# Altium footprint library PcbLib1.PcbLib: 14 footprints (part 3 of 3)
Each footprint in its own frame and in the unit in brackets; x right, y up, seen from the top. Pads: shape width x height; smd on the part's side, far side on the other; paste and mask are expansions set on the pad; w line width, h text height; cw(c..) or ccw(c..) is an arc to the next point about the centre after c.
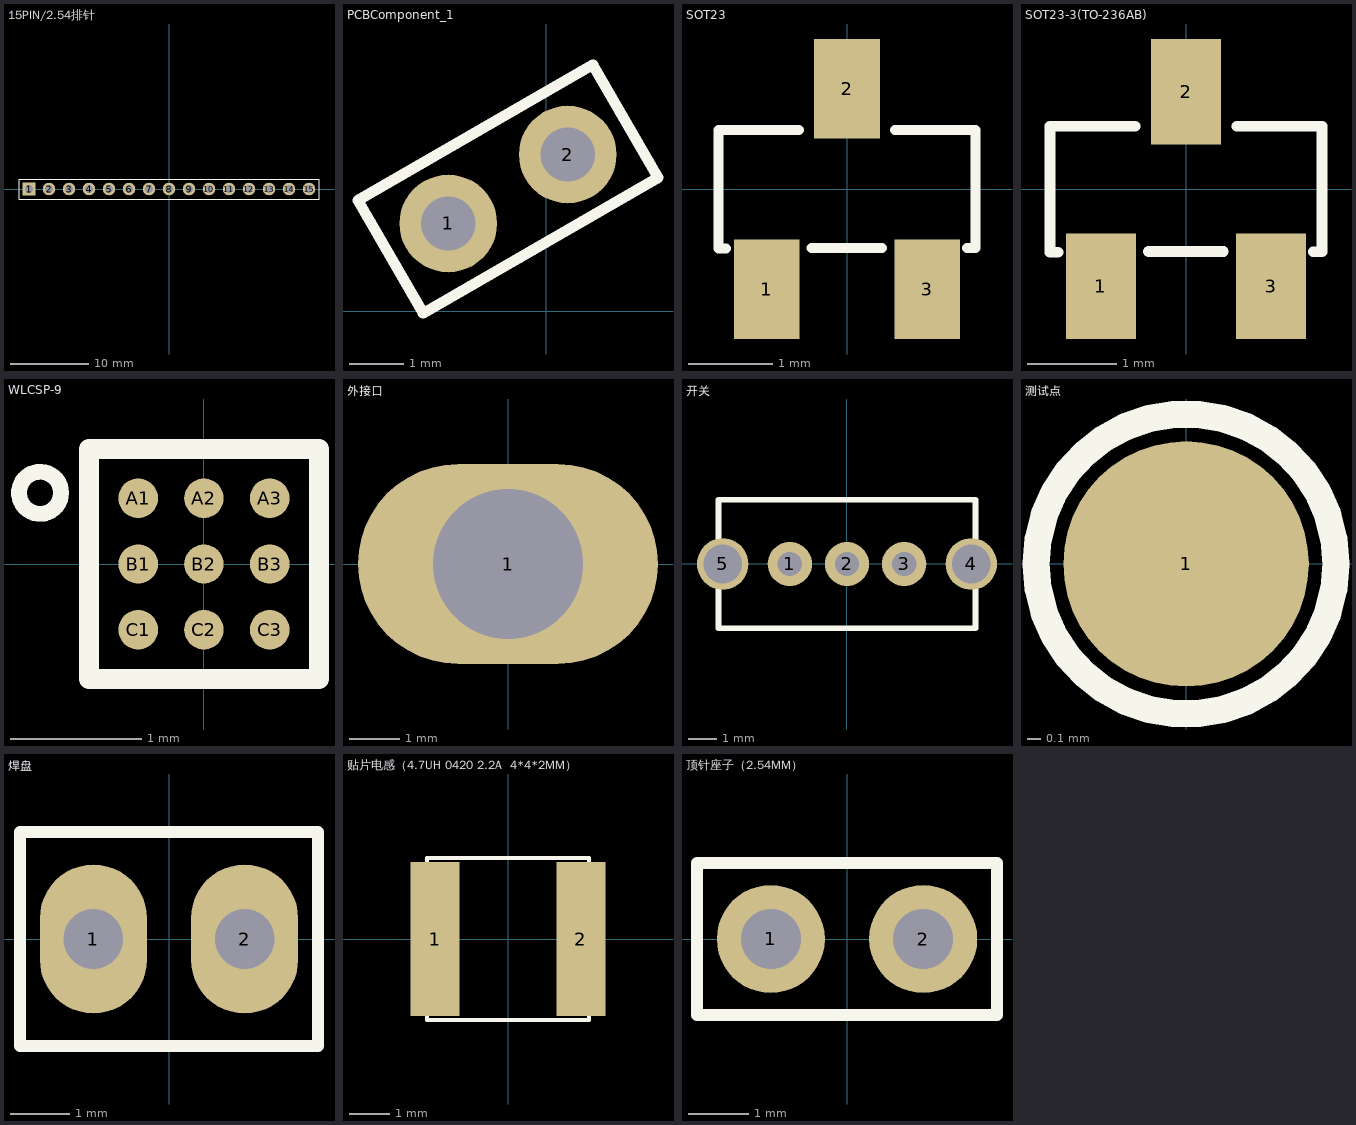
[diagram p2: the footprints below, top view; thin cyan lines are the x and y axes]

## 15PIN/2.54排针 [mm]
pads (15):
  rect 1.6x1.6 hole 1: 1(-17.78,0)
  round 1.6 hole 1: 2(-15.24,0) 3(-12.7,0) 4(-10.16,0) 5(-7.62,0) 6(-5.08,0) 7(-2.54,0) 8(0,0) 9(2.54,0) 10(5.08,0) 11(7.62,0) 12(10.16,0) 13(12.7,0) 14(15.24,0) 15(17.78,0)
Top Overlay:
  lines w0.15: -3.81,-1.27 8.76,-1.27 13.97,-1.27 ; -3.81,1.27 8.76,1.27 13.97,1.27 ; -1.27,-1.27 -6.48,-1.27 -19.05,-1.27 -19.05,1.27 -6.48,1.27 -1.27,1.27 ; 13.84,-1.27 19.05,-1.27 19.05,1.27 13.84,1.27

## PCBComponent_1 [mm]
pads (2):
  round 1.8 hole 1: 1(-1.804,1.621) 2(0.396,2.891)
Top Overlay:
  lines w0.2: -3.469,2.046 0.861,4.546 2.061,2.467 -2.269,-0.033 -3.469,2.046

## PCBComponent_1 - duplicate [mm]

## SOT23 [mm]
pads (3):
  rect 0.78x1.18 smd: 1(-0.95,-1.185) 2(0,1.185) 3(0.95,-1.185)
Top Overlay:
  lines w0.12: -1.43,-0.705 -1.52,-0.705 -1.52,0.7 -0.57,0.7 ; -0.42,-0.698 0.415,-0.698 ; 0.57,0.7 1.52,0.7 1.52,-0.7 1.421,-0.7

## SOT23-3(TO-236AB) [mm]
pads (3):
  rect 0.78x1.18 smd: 1(-0.95,-1.085) 2(0,1.085) 3(0.95,-1.085)
Top Overlay:
  lines w0.12: -1.43,-0.705 -1.52,-0.705 -1.52,0.7 -0.57,0.7 ; -0.42,-0.698 0.415,-0.698 ; 0.57,0.7 1.52,0.7 1.52,-0.7 1.421,-0.7

## WLCSP-9 [mm]
pads (9):
  round 0.3 smd: A1(-0.5,0.5) A2(0,0.5) A3(0.5,0.5) B1(-0.5,0) B2(0,0) B3(0.5,0) C1(-0.5,-0.5) C2(0,-0.5) C3(0.5,-0.5)
Top Overlay:
  circle w0.12: c-1.247,0.541 r0.16
  lines w0.15: -0.875,-0.875 0.875,-0.875 0.875,0.875 -0.875,0.875 -0.875,-0.875

## 外接口 [mm]
pads (1):
  oval 6x4 hole 3: 1(0,0)

## 开关 [mm]
pads (5):
  round 1.55 hole 0.85: 1(-2,0) 2(0,0) 3(2,0)
  round 1.8 hole 1.35: 4(4.35,0) 5(-4.35,0)
Top Overlay:
  lines w0.2: -1,-2.249 1,-2.249 ; -4.5,-2.25 4.5,-2.25 4.5,2.25 -4.5,2.25 -4.5,-2.25

## 测试点 [mm]
pads (1):
  round 1.8 smd: 1(0,0)
Top Overlay:
  circle w0.2: c0,0 r1.1

## 焊盘 [mm]
pads (2):
  oval 1.8x2.5 hole 1: 1(-1.27,0) 2(1.27,0)
Top Overlay:
  lines w0.2: -2.5,-1.8 2.5,-1.8 2.5,1.8 -2.5,1.8 -2.5,-1.776

## 贴片电感（4.7UH 0420 2.2A  4*4*2MM） [mm] "4.7UH 0420 2.2A  4*4*2MM"
pads (2):
  rect 1.2x3.8 smd: 1(-1.8,0) 2(1.8,0)
Top Overlay:
  lines w0.1: -2,-2 2,-2 2,2 -2,2 -2,-2

## 顶针座子（2.54MM） [mm]
pads (2):
  round 1.8 hole 1: 1(-1.27,0) 2(1.27,0)
Top Overlay:
  lines w0.2: -2.5,-1.27 2.5,-1.27 2.5,1.27 -2.5,1.27 -2.5,-1.27